# Altium footprint library JST2P.PcbLib: 1 footprints
Each footprint in its own frame and in the unit in brackets; x right, y up, seen from the top. Pads: shape width x height; smd on the part's side, far side on the other; paste and mask are expansions set on the pad; w line width, h text height; cw(c..) or ccw(c..) is an arc to the next point about the centre after c.
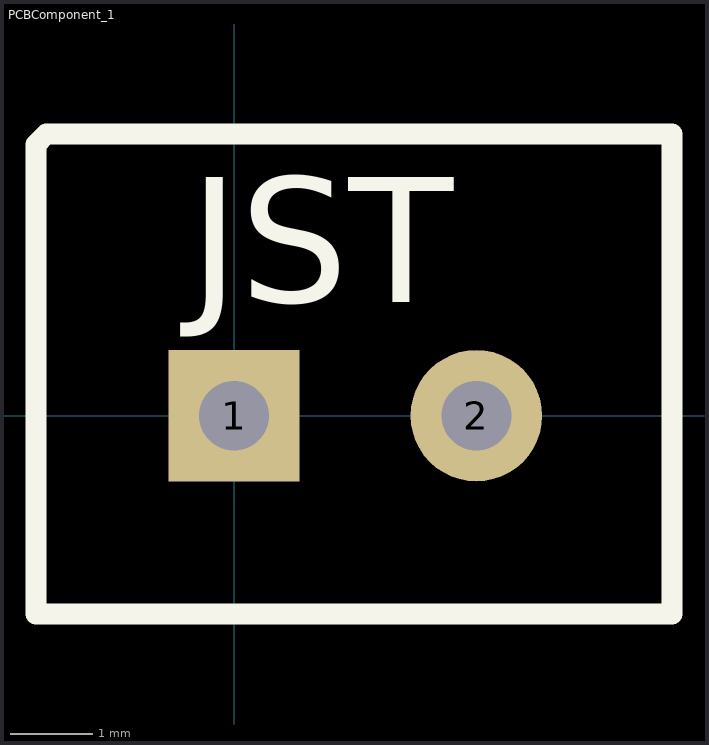
[diagram p0: the footprint, top view; thin cyan lines are the x and y axes]

## PCBComponent_1 [mm]
pads (2):
  rect 1.6x1.6 hole 0.85: 1(0,0)
  round 1.6 hole 0.85: 2(2.95,0)
Top Overlay:
  lines w0.254: -2.413,-2.413 5.334,-2.413 5.334,3.429 -2.286,3.429 -2.413,3.302 -2.413,-2.413
  text "JST" at -0.546,1.379 h1.52
3D body "jst2pins.step": height 7, standoff -3.5, extent -2.325,-2.325 5.175,3.425